# Altium schematic symbol library EL-sense_Diode.SchLib: 8 symbols
Pins are listed as number, name and electrical type; pins without a type are passive.

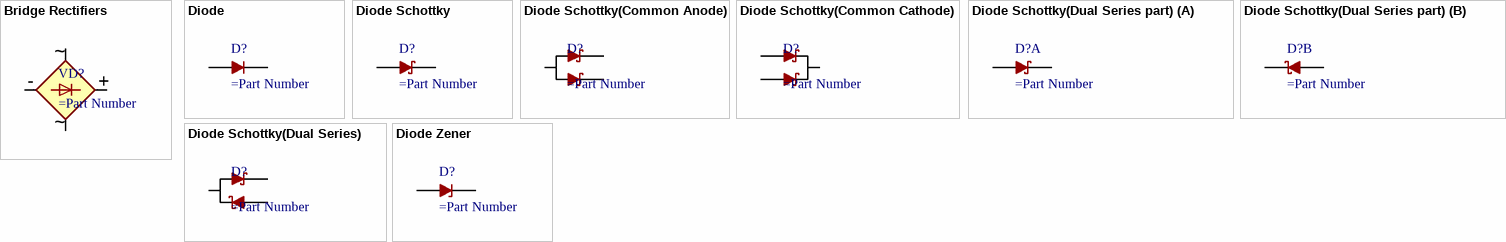
[diagram p0: symbols Bridge Rectifiers to Diode Zener]

## Bridge Rectifiers
designator VD?
pins: 1, 2, 3, 4
text: ~; -; +

## Diode
designator D?
pins: A, C

## Diode Schottky
designator D?
pins: A, C

## Diode Schottky(Common Anode)
designator D?
pins: A, C1, C2

## Diode Schottky(Common Cathode)
designator D?
pins: A1, A2, C

## Diode Schottky(Dual Series part)
designator D?
part A pins: A2C1, C2
part B pins: A1, A2C1

## Diode Schottky(Dual Series)
designator D?
pins: A1, A2C1, C2

## Diode Zener
designator D?
pins: A, C